# EAGLE library part 503552-0622 (library SamacSys_Parts)
Board to Board & Mezzanine Connectors SLIMSTACK .4MM PITCH HRF PLUG 6CKT Source: Datasheet <https://www.molex.com/pdm_docs/sd/5035520622_sd.pdf>
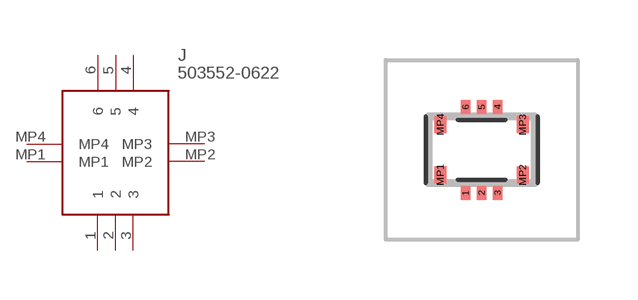
[diagram p5: symbol with the pads of 5035520622; footprint 5035520622]

Designator prefix J

## 503552-0622 (DESCRIPTION: Board to Board & Mezzanine Connectors SLIMSTACK .4MM PITCH HRF PLUG 6CKT; HEIGHT: 0.78mm; MANUFACTURER_NAME: Molex; MANUFACTURER_PART_NUMBER: 503552-0622; MOUSER_PART_NUMBER: 538-503552-0622; MOUSER_PRICE-STOCK: https://www.mouser.co.uk/ProductDetail/Molex/503552-0622?qs=byeeYqUIh0NpRwuneBPQBA%3D%3D)  [5035520622]
1  1
2  2
3  3
4  4
5  5
6  6
MP1  MP1
MP2  MP2
MP3  MP3
MP4  MP4

## Footprint 5035520622 (pad centres in mm)
503552-0622-2
smd 0.24 x 0.35: 1 -0.4,-1.075; 2 0,-1.075; 3 0.4,-1.075; 4 0.4,1.075; 5 0,1.075; 6 -0.4,1.075
smd 0.3 x 0.42: MP1 -1.03,-0.63; MP2 1.03,-0.63; MP3 1.03,0.63; MP4 -1.03,0.63